# Altium footprint library 控制盒基板1.PcbLib: 43 footprints (part 1 of 3)
Each footprint in its own frame and in the unit in brackets; x right, y up, seen from the top. Pads: shape width x height; smd on the part's side, far side on the other; paste and mask are expansions set on the pad; w line width, h text height; cw(c..) or ccw(c..) is an arc to the next point about the centre after c.
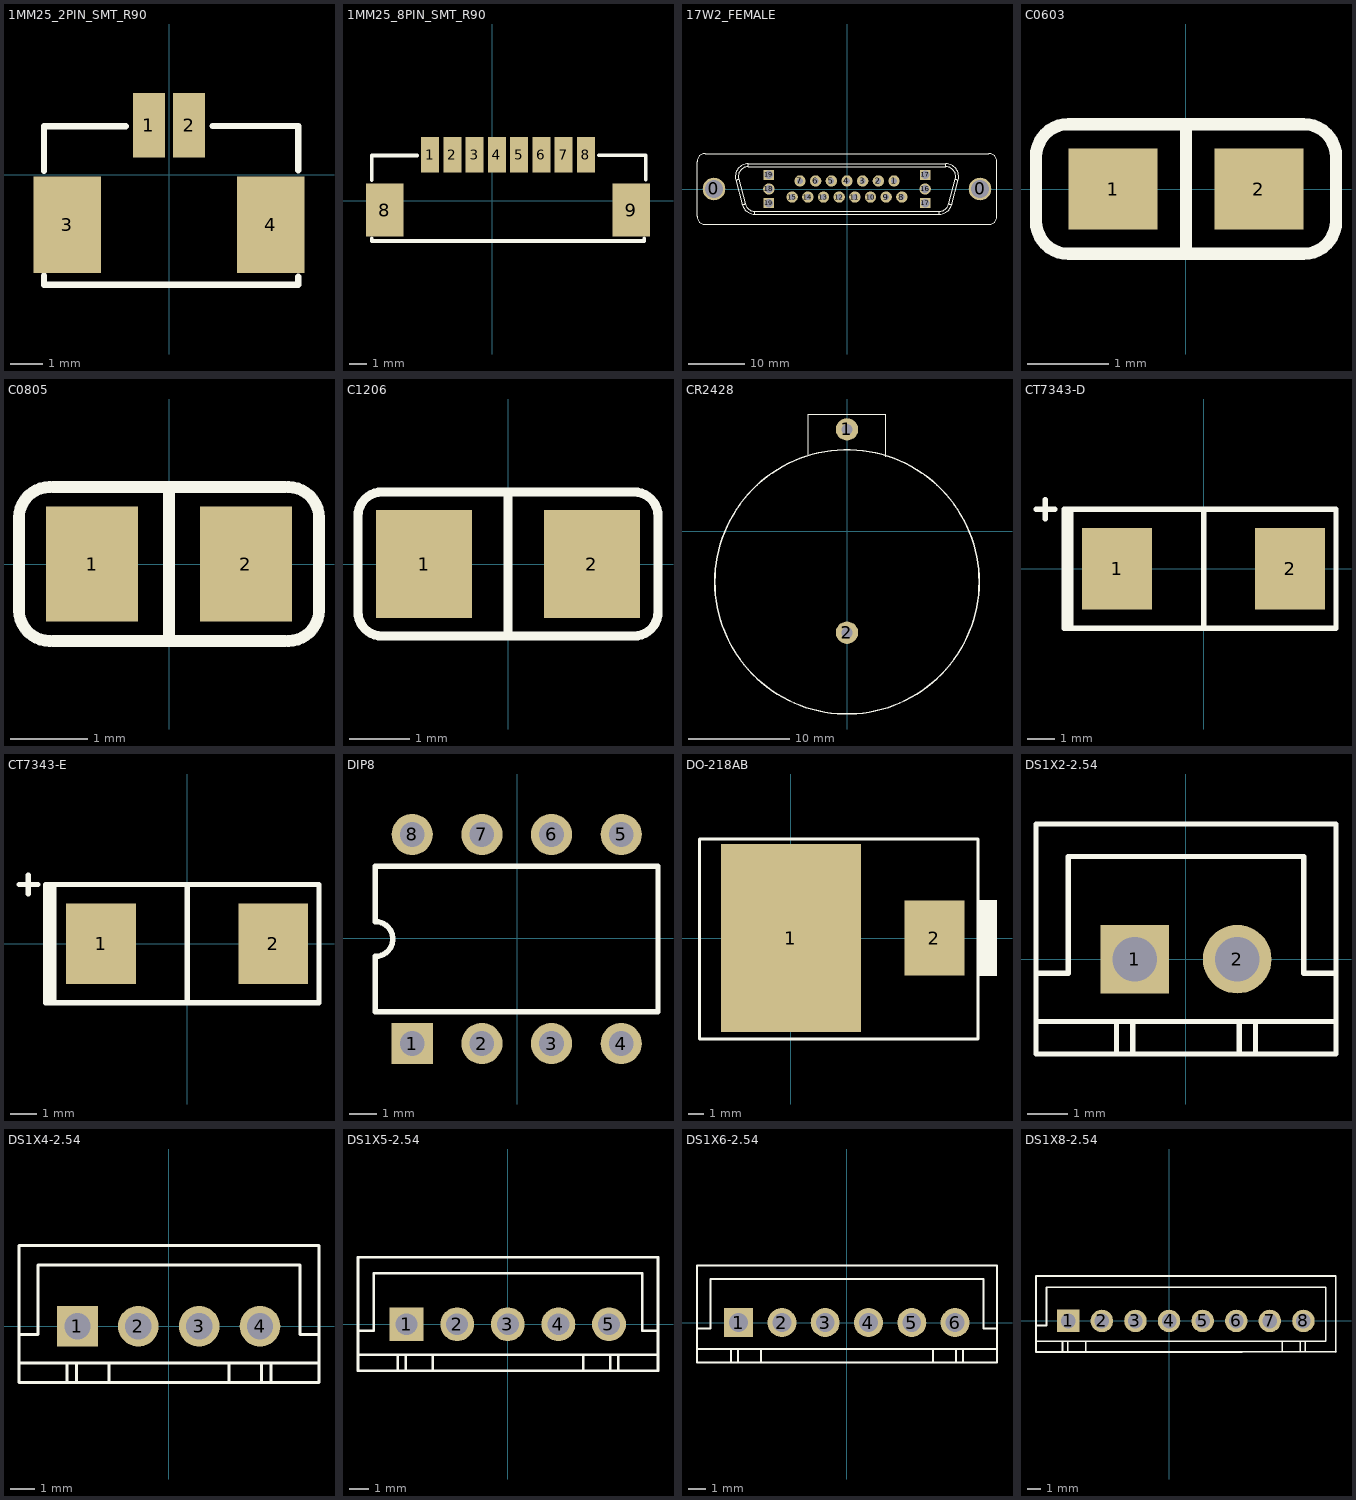
[diagram p0: the footprints below, top view; thin cyan lines are the x and y axes]

## 1MM25_2PIN_SMT_R90 [mm]
pads (4):
  rect 1x2 smd: 1(-0.625,1.55) 2(0.625,1.55)
  rect 2.1x3 smd: 3(-3.175,-1.55) 4(3.175,-1.55)
Top Overlay:
  lines w0.2: -3.895,-3.14 -3.895,-3.429 4.024,-3.429 4.024,-3.175 ; -3.895,0.13 -3.895,1.51 -1.345,1.51 ; 1.357,1.524 4.007,1.524 ; 4.024,0.144 4.024,1.524

## 1MM25_8PIN_SMT_R90 [mm]
pads (10):
  rect 1x2 smd: 1(-3.496,2.566) 2(-2.246,2.566) 3(-0.996,2.566) 4(0.254,2.566) 5(1.504,2.566) 6(2.754,2.566) 7(4.004,2.566) 8(5.254,2.566)
  rect 2.1x3 smd: 8(-6.046,-0.534) 9(7.804,-0.534)
Top Overlay:
  lines w0.2: -6.766,-2.124 -6.766,-2.274 6.024,-2.274 8.541,-2.274 8.541,-2.127 ; -6.766,1.146 -6.766,2.526 -4.216,2.526 ; 5.969,2.54 8.619,2.54 8.619,1.16

## 17W2_FEMALE [mm]
pads (23):
  round 4 hole 3.2: 0(-23.52,0) 0(23.52,0)
  round 2 hole 1: 1(8.31,1.42) 2(5.54,1.42) 3(2.77,1.42) 4(0,1.42) 5(-2.77,1.42) 6(-5.54,1.42) 7(-8.31,1.42) 8(9.695,-1.42) 9(6.925,-1.42) 10(4.155,-1.42) 11(1.385,-1.42) 12(-1.385,-1.42) 13(-4.155,-1.42) 14(-6.925,-1.42) 15(-9.695,-1.42)
  round 2 hole 1.4: 16(13.82,0) 18(-13.82,0)
  rect 1.8x1.8 hole 1.5: 17(13.82,-2.5) 17(13.82,2.5) 19(-13.82,-2.5) 19(-13.82,2.5)
Top Overlay:
  lines w0.127: -19.663,1.595 cw(c-17.48,2.18) -17.48,4.44 ; -19.663,1.595 -18.495,-2.765 ; -19.663,1.595 -19.569,1.62 -19.478,1.645 -19.395,1.667 -19.321,1.687 -19.261,1.703 -19.217,1.715 -19.189,1.722 -19.18,1.724 ; -19.18,1.724 cw(c-17.48,2.18) -17.48,3.94 ; -19.18,1.724 -18.012,-2.635 ; -18.495,-2.765 ccw(c-16.312,-2.18) -16.312,-4.44 ; -18.495,-2.765 -18.4,-2.74 -18.31,-2.715 -18.226,-2.693 -18.153,-2.673 -18.093,-2.657 -18.048,-2.645 -18.021,-2.638 -18.012,-2.635 ; -18.012,-2.636 ccw(c-16.312,-2.18) -16.312,-3.94 ; -17.48,3.94 17.48,3.94 ; -17.48,3.94 -17.48,4.44 ; -17.48,4.44 17.48,4.44 ; -16.312,-4.44 16.312,-4.44 ; -16.312,-4.44 -16.312,-3.94 ; -16.312,-3.94 16.312,-3.94 ; 16.312,-4.44 ccw(c16.312,-2.18) 18.495,-2.765 ; 16.312,-4.44 16.312,-3.94 ; 16.312,-3.94 ccw(c16.312,-2.18) 18.012,-2.636 ; 17.48,3.94 cw(c17.48,2.18) 19.18,1.724 ; 17.48,3.94 17.48,4.44 ; 17.48,4.44 cw(c17.48,2.18) 19.663,1.595 ; 18.012,-2.635 19.18,1.724 ; 18.012,-2.635 18.021,-2.638 18.049,-2.645 18.093,-2.657 18.153,-2.673 18.226,-2.693 18.31,-2.715 18.4,-2.74 18.495,-2.765 ; 18.495,-2.765 19.663,1.595 ; 19.18,1.724 19.189,1.722 19.217,1.715 19.261,1.703 19.321,1.687 19.395,1.667 19.478,1.645 19.569,1.62 19.663,1.595 ; -26.52,-4.775 ccw(c-25.02,-4.775) -25.02,-6.275 25.02,-6.275 ccw(c25.02,-4.775) 26.52,-4.775 26.52,4.775 ccw(c25.02,4.775) 25.02,6.275 -25.02,6.275 ccw(c-25.02,4.775) -26.52,4.775 -26.52,-4.775
3D body: height 13.6, standoff -4.1, extent -26.47,-6.269 26.57,6.281

## C0603 [mm]
height 0.762
pads (2):
  rect 1.1x1 smd: 1(-0.9,0) 2(0.9,0)
Top Overlay:
  lines w0.152: 0,-0.8 0,0.8 ; 0,0.8 -1.45,0.8 ccw(c-1.45,0.4) -1.85,0.4 -1.85,-0.4 ccw(c-1.45,-0.4) -1.45,-0.8 1.45,-0.8 ccw(c1.45,-0.4) 1.85,-0.4 1.85,0.4 ccw(c1.45,0.4) 1.45,0.8 0,0.8
3D body: height 0.46, standoff 0, extent -0.762,-0.386 0.762,0.381

## C0805 [mm]
pads (2):
  rect 1.2x1.5 smd: 1(-1,0) 2(1,0)
Top Overlay:
  lines w0.152: -1.55,-1 cw(c-1.55,-0.6) -1.95,-0.6 -1.95,0.6 cw(c-1.55,0.6) -1.55,1 ; -1.5,-1 1.5,-1 ; -1.5,1 1.5,1 ; 0,-1 0,1 ; 1.55,-1 ccw(c1.55,-0.6) 1.95,-0.6 1.95,0.6 ccw(c1.55,0.6) 1.55,1
3D body: height 0.61, standoff 0, extent -1.016,-0.638 1.016,0.638

## C1206 [mm]
pads (2):
  rect 1.6x1.8 smd: 1(-1.4,0) 2(1.4,0)
Top Overlay:
  lines w0.152: 0,-1.2 0,1.2 ; -2.5,-0.8 ccw(c-2.1,-0.8) -2.1,-1.2 2.1,-1.2 ccw(c2.1,-0.8) 2.5,-0.8 2.5,0.8 ccw(c2.1,0.8) 2.1,1.2 -2.1,1.2 ccw(c-2.1,0.8) -2.5,0.8 -2.5,-0.8
3D body: height 0.61, standoff 0, extent -1.524,-0.818 1.524,0.711

## CR2428 [mm]
pads (2):
  round 2.2 hole 1.1: 1(0,10) 2(0,-10)
Top Overlay:
  circle w0.15: c0,-5 r13
  lines w0.105: -3.81,7.446 -3.81,11.51 3.81,11.51 3.81,7.319

## CT7343-D [mm]
pads (2):
  rect 2.6x3 smd: 1(-3.2,0) 2(3.2,0)
Top Overlay:
  rectangle: -5.191,-2.097 -4.81,2.203
  lines w0.203: -6.2,2.2 -5.85,2.2 ; -5.85,1.85 -5.85,2.2 ; -5.85,2.55 -5.85,2.2 ; -5.5,2.2 -5.85,2.2 ; 0,-2.1 0,2.1 ; -5.15,-2.2 -5.15,2.2 4.9,2.2 4.9,-2.2 -5.15,-2.2
3D body: height 2.8, standoff 0, extent -3.746,-2.159 3.746,2.159

## CT7343-E [mm]
pads (2):
  rect 2.6x3 smd: 1(-3.2,0) 2(3.2,0)
Top Overlay:
  rectangle: -5.234,-2.087 -4.853,2.213
  lines w0.203: -6.25,2.2 -5.9,2.2 ; -5.9,1.85 -5.9,2.2 ; -5.9,2.55 -5.9,2.2 ; -5.55,2.2 -5.9,2.2 ; 0,-2.1 0,2.1 ; -5.25,-2.2 -5.25,2.2 4.9,2.2 4.9,-2.2 -5.25,-2.2
3D body: height 4, standoff 0, extent -3.746,-2.2 3.746,2.118

## DIP8 [mm]
pads (8):
  rect 1.5x1.5 hole 0.9: 1(-3.823,-3.836)
  round 1.5 hole 0.9: 2(-1.283,-3.836) 3(1.257,-3.836) 4(3.797,-3.836) 5(3.797,3.784) 6(1.257,3.784) 7(-1.283,3.784) 8(-3.823,3.784)
Top Overlay:
  lines w0.2: -5.163,-2.676 -5.163,-0.661 ccw(c-5.163,-0.026) -5.163,0.609 -5.163,2.624 5.137,2.624 5.137,-2.676 -5.163,-2.676

## DO-218AB [mm]
pads (2):
  rect 9.3x12.5 smd: 1(0,0)
  rect 4x5 smd: 2(9.55,0)
Top Overlay:
  rectangle: 12.446,-2.54 13.716,2.54
  lines w0.203: -6.096,-6.731 -6.096,6.604 12.446,6.604 12.446,-6.731 -6.096,-6.731

## DS1X2-2.54 [mm]
pads (2):
  rect 1.7x1.7 hole 1.1: 1(-1.27,0)
  round 1.7 hole 1.1: 2(1.27,0)
Top Overlay:
  lines w0.127: -3.72,-1.549 -3.72,-2.349 -1.72,-2.349 ; -3.72,-1.549 -1.72,-1.549 ; -3.72,-1.549 -3.72,-0.349 ; -3.72,-0.349 -3.72,3.351 3.72,3.351 3.72,-0.349 ; -3.72,-0.349 -2.92,-0.349 -2.92,2.551 2.92,2.551 2.92,-0.349 3.72,-0.349 ; -1.72,-2.349 -1.72,-1.549 ; -1.72,-2.349 -1.32,-2.349 ; -1.72,-1.549 -1.32,-1.549 ; -1.32,-2.349 -1.32,-1.549 ; -1.32,-2.349 1.32,-2.349 ; -1.32,-1.549 1.32,-1.549 ; 1.32,-2.349 1.32,-1.549 ; 1.32,-2.349 1.72,-2.349 ; 1.32,-1.549 1.72,-1.549 ; 1.72,-2.349 1.72,-1.549 ; 1.72,-2.349 3.72,-2.349 3.72,-1.549 ; 1.72,-1.549 3.72,-1.549 ; 3.72,-1.549 3.72,-0.349 ; -1.57,-0.299 -0.97,-0.299 -0.97,0.301 -1.57,0.301 -1.57,-0.299 ; 0.97,-0.299 1.57,-0.299 1.57,0.301 0.97,0.301 0.97,-0.299
3D body: height 7, standoff -3.4, extent -3.71,-2.36 3.73,3.34

## DS1X4-2.54 [mm]
pads (4):
  rect 1.7x1.7 hole 1.1: 1(-3.81,0)
  round 1.7 hole 1.1: 2(-1.27,0) 3(1.27,0) 4(3.81,0)
Top Overlay:
  lines w0.127: -6.25,-1.54 -6.25,-2.34 -4.25,-2.34 ; -6.25,-1.54 -4.25,-1.54 ; -6.25,-1.54 -6.25,-0.34 ; -6.25,-0.34 -6.25,3.36 6.27,3.36 6.27,-0.34 ; -6.25,-0.34 -5.45,-0.34 -5.45,2.56 5.47,2.56 5.47,-0.34 6.27,-0.34 ; -4.25,-2.34 -3.85,-2.34 ; -4.25,-2.34 -4.25,-1.54 ; -4.25,-1.54 -3.85,-1.54 ; -3.85,-2.34 -3.85,-1.54 ; -3.85,-2.34 -2.499,-2.34 ; -3.85,-1.54 -2.499,-1.54 ; -2.499,-2.34 2.52,-2.34 ; -2.499,-2.34 -2.499,-1.54 ; -2.499,-1.54 2.52,-1.54 ; 2.52,-2.34 2.52,-1.54 ; 2.52,-2.34 3.87,-2.34 ; 2.52,-1.54 3.87,-1.54 ; 3.87,-2.34 3.87,-1.54 ; 3.87,-2.34 4.27,-2.34 ; 3.87,-1.54 4.27,-1.54 ; 4.27,-2.34 4.27,-1.54 ; 4.27,-2.34 6.27,-2.34 6.27,-1.54 ; 4.27,-1.54 6.27,-1.54 ; 6.27,-1.54 6.27,-0.34
3D body: height 7, standoff -3.4, extent -6.31,-2.33 6.21,3.37

## DS1X5-2.54 [mm]
pads (5):
  rect 1.7x1.7 hole 1.1: 1(-5.08,0)
  round 1.7 hole 1.1: 2(-2.54,0) 3(0,0) 4(2.54,0) 5(5.08,0)
Top Overlay:
  lines w0.127: -7.52,-1.535 -7.52,-0.335 ; -7.52,-1.535 -7.52,-2.335 -5.52,-2.335 ; -7.52,-1.535 -5.52,-1.535 ; -7.52,-0.335 -7.52,3.365 7.54,3.365 7.54,-0.335 ; -7.52,-0.335 -6.72,-0.335 -6.72,2.565 6.74,2.565 6.74,-0.335 7.54,-0.335 ; -5.52,-2.335 -5.52,-1.535 ; -5.52,-2.335 -5.12,-2.335 ; -5.52,-1.535 -5.12,-1.535 ; -5.12,-2.335 -3.77,-2.335 ; -5.12,-2.335 -5.12,-1.535 ; -5.12,-1.535 -3.77,-1.535 ; -3.77,-2.335 -3.77,-1.535 ; -3.77,-2.335 3.79,-2.335 ; -3.77,-1.535 3.79,-1.535 ; 3.79,-2.335 5.14,-2.335 ; 3.79,-2.335 3.79,-1.535 ; 3.79,-1.535 5.14,-1.535 ; 5.14,-2.335 5.54,-2.335 ; 5.14,-2.335 5.14,-1.535 ; 5.14,-1.535 5.54,-1.535 ; 5.54,-2.335 5.54,-1.535 ; 5.54,-2.335 7.54,-2.335 7.54,-1.535 ; 5.54,-1.535 7.54,-1.535 ; 7.54,-1.535 7.54,-0.335
3D body: height 7, standoff -3.4, extent -7.53,-2.33 7.53,3.37

## DS1X6-2.54 [mm]
pads (6):
  rect 1.7x1.7 hole 1.1: 1(-6.35,0)
  round 1.7 hole 1.1: 2(-3.81,0) 3(-1.27,0) 4(1.27,0) 5(3.81,0) 6(6.35,0)
Top Overlay:
  lines w0.127: -8.79,-1.545 -8.79,-0.345 ; -8.79,-1.545 -6.79,-1.545 ; -8.79,-1.545 -8.79,-2.345 -6.79,-2.345 ; -8.79,-0.345 -7.99,-0.345 -7.99,2.555 8.01,2.555 8.01,-0.345 8.81,-0.345 ; -8.79,-0.345 -8.79,3.355 8.81,3.355 8.81,-0.345 ; -6.79,-2.345 -6.39,-2.345 ; -6.79,-2.345 -6.79,-1.545 ; -6.79,-1.545 -6.39,-1.545 ; -6.39,-2.345 -5.04,-2.345 ; -6.39,-2.345 -6.39,-1.545 ; -6.39,-1.545 -5.04,-1.545 ; -5.04,-2.345 -5.04,-1.545 ; -5.04,-2.345 5.06,-2.345 ; -5.04,-1.545 5.06,-1.545 ; 5.06,-2.345 6.41,-2.345 ; 5.06,-2.345 5.06,-1.545 ; 5.06,-1.545 6.41,-1.545 ; 6.41,-2.345 6.41,-1.545 ; 6.41,-2.345 6.81,-2.345 ; 6.41,-1.545 6.81,-1.545 ; 6.81,-2.345 6.81,-1.545 ; 6.81,-2.345 8.81,-2.345 8.81,-1.545 ; 6.81,-1.545 8.81,-1.545 ; 8.81,-1.545 8.81,-0.345
3D body: height 7, standoff -3.4, extent -8.79,-2.35 8.81,3.35

## DS1X8-2.54 [mm]
pads (8):
  rect 1.7x1.7 hole 1.1: 1(-7.62,0)
  round 1.7 hole 1.1: 2(-5.08,0) 3(-2.54,0) 4(0,0) 5(2.54,0) 6(5.08,0) 7(7.62,0) 8(10.16,0)
Top Overlay:
  lines w0.127: 8.56,-2.335 8.56,-1.535 ; 9.91,-2.335 9.91,-1.535 ; 10.31,-2.335 10.31,-1.535 ; 11.8,-1.54 5.545,-1.54 5.54,-1.545 5.14,-1.545 3.79,-1.545 -6.31,-1.545 ; 11.8,2.555 -9.26,2.555 -9.26,-0.345 -10.06,-0.345 ; 11.84,-1.54 11.84,2.555 ; 12.6,3.4 -10.06,3.4 -10.06,-0.345 ; 12.601,-2.345 12.601,3.355 ; 12.624,-2.337 5.54,-2.345 5.14,-2.345 3.79,-2.345 -6.31,-2.345 ; -10.06,-1.545 -10.06,-0.345 ; -10.06,-1.545 -8.06,-1.545 ; -10.06,-1.545 -10.06,-2.345 -8.06,-2.345 ; -8.06,-2.345 -7.66,-2.345 ; -8.06,-2.345 -8.06,-1.545 ; -8.06,-1.545 -7.66,-1.545 ; -7.66,-2.345 -6.31,-2.345 ; -7.66,-2.345 -7.66,-1.545 ; -7.66,-1.545 -6.31,-1.545 ; -6.31,-2.345 -6.31,-1.545